# Altium schematic symbol library HSY-16-2130UYC.SchLib: 1 symbol
Pins are listed as number, name and electrical type; pins without a type are passive.

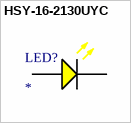
[diagram p0: symbol HSY-16-2130UYC]

## HSY-16-2130UYC
designator LED?
0402 Yellow led
pins: 1 K, 2 A